# Altium schematic symbol library MB85RC256VPF-G-JNERE2.SCHLIB: 1 symbol
Pins are listed as number, name and electrical type; pins without a type are passive.

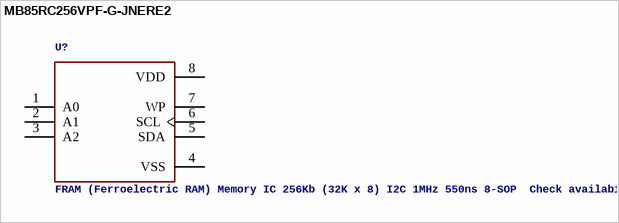
[diagram p0: symbol MB85RC256VPF-G-JNERE2]

## MB85RC256VPF-G-JNERE2
designator U?, comment FRAM (Ferroelectric RAM) Memory IC 256Kb (32K x 8) I2C 1MHz 550ns 8-SOP  Check availability
GateName_1: G$1; SymbolName_1: MB85RC256VPF-G-JNERE2; MF: Fujitsu Electronics; Description: FRAM (Ferroelectric RAM) Memory IC 256Kb (32K x 8) I²C 1 MHz 550 ns 8-SOP; LibraryName: MB85RC256VPF-G-JNERE2; DeviceSetName: MB85RC256VPF-G-JNERE2; Availability: In Stock; MP: MB85RC256VPF-G-JNERE2; Price: None; Purchase-URL: https://pricing.snapeda.com/search/part/MB85RC256VPF-G-JNERE2/?ref=eda; Package: SOP-8 Fujitsu
footprint SOP127P797X210-8N
pins: 1 A0, 2 A1, 3 A2, 4 VSS (power), 5 SDA, 6 SCL, 7 WP, 8 VDD (power)